# Altium schematic symbol library Onsemi.SchLib: 1 symbol
Pins are listed as number, name and electrical type; pins without a type are passive.

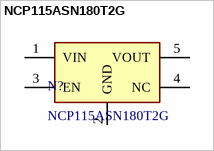
[diagram p0: symbol NCP115ASN180T2G]

## NCP115ASN180T2G
designator N?
Supplier 1: Digi-Key; Supplier Part Number 1: NCP115ASN180T2GOSCT-ND
footprint NCP115ASN180T2G (SOT23, 5-Leads, Body 3.00x2.75mm, Pitch 0.95mm, IPC Medium Density)
pins: 1 VIN, 2 GND, 3 EN, 4 NC, 5 VOUT